# Altium footprint library myPcbLib.PcbLib: 116 footprints (part 2 of 8)
Each footprint in its own frame and in the unit in brackets; x right, y up, seen from the top. Pads: shape width x height; smd on the part's side, far side on the other; paste and mask are expansions set on the pad; w line width, h text height; cw(c..) or ccw(c..) is an arc to the next point about the centre after c.
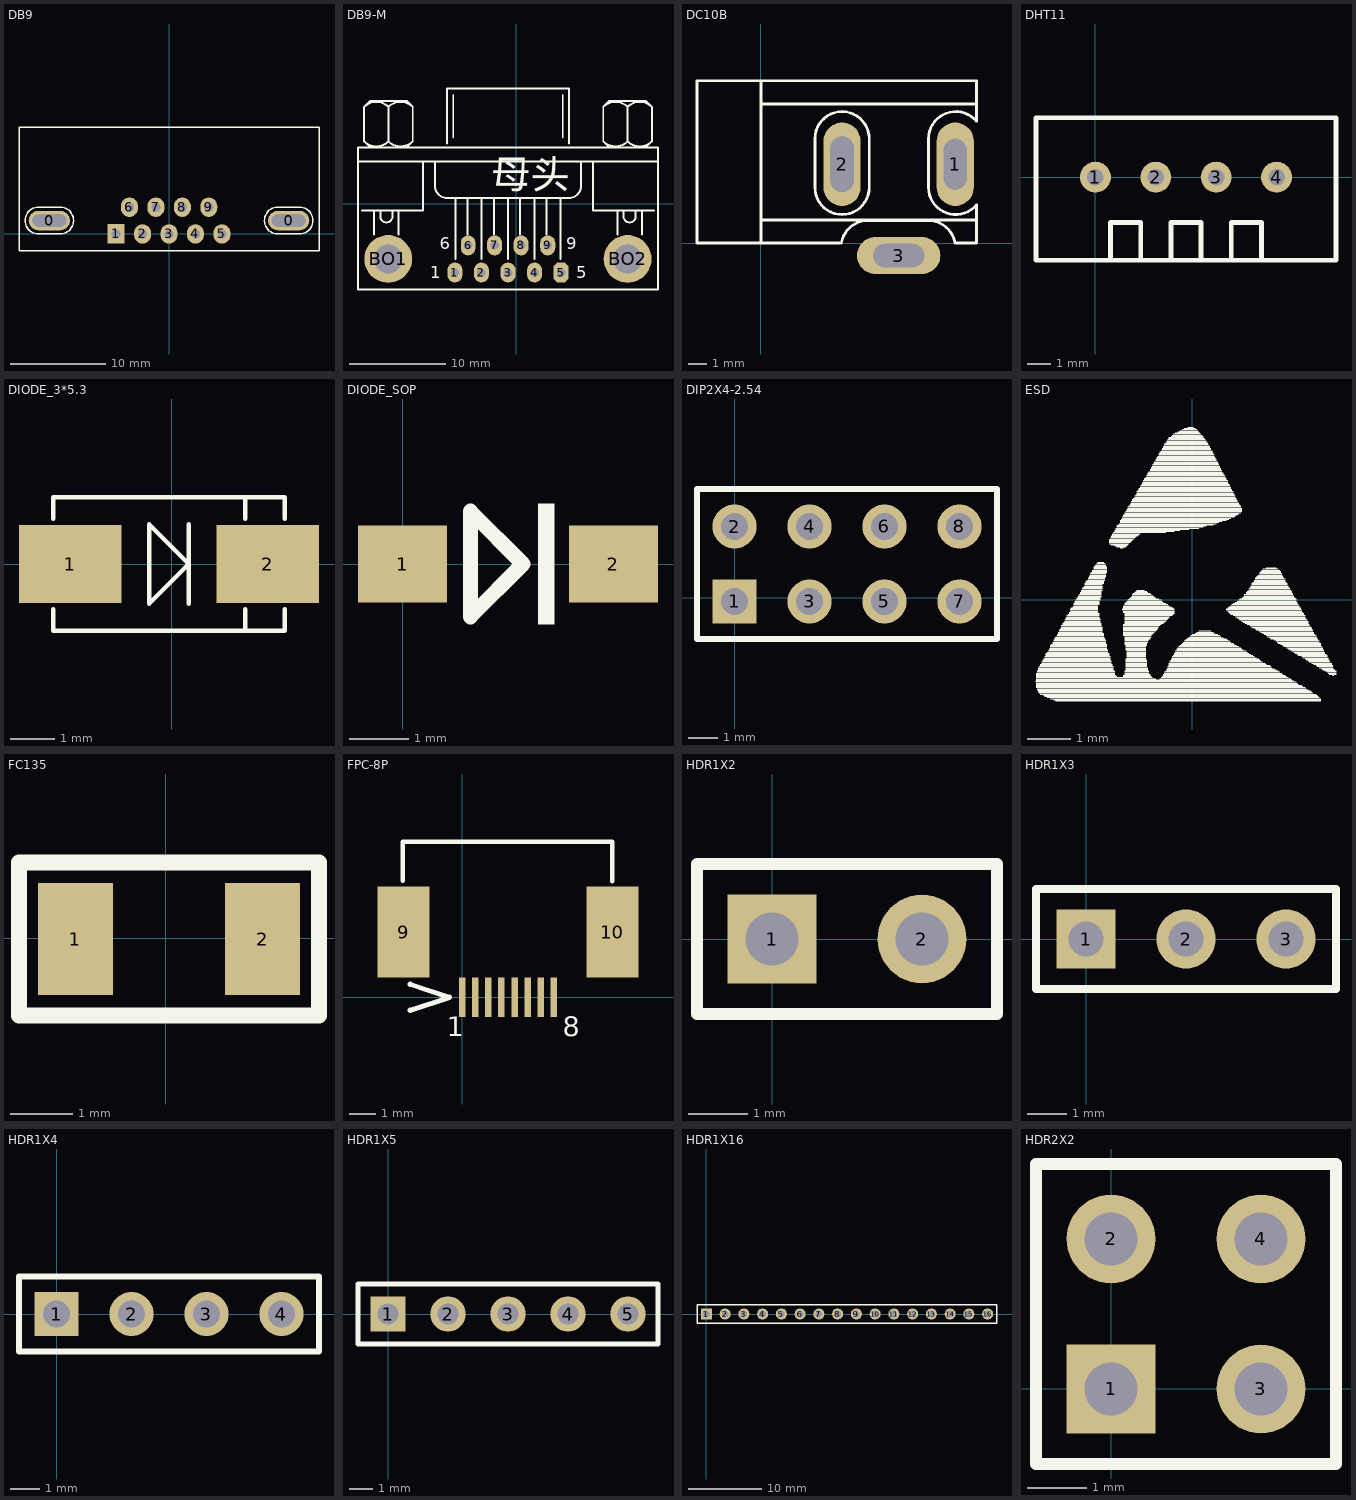
[diagram p1: the footprints below, top view; thin cyan lines are the x and y axes]

## DB9 [mil]
pads (11):
  oval 170x80 hole 50 slot 140 at 0 deg: 0(-493,55) 0(493,55)
  rect 70x80 hole 38: 1(-218,0)
  oval 70x80 hole 38: 2(-109,0) 3(0,0) 4(109,0) 5(218,0) 6(-163,110) 7(-54,110) 8(55,110) 9(164,110)
Top Overlay:
  lines w6: -618,-70 -618,440 618,440 618,-70 -618,-70 ; -538,0 cw(c-538,55) -538,110 -448,110 cw(c-448,55) -448,0 -538,0 ; 448,0 cw(c448,55) 448,110 538,110 cw(c538,55) 538,0 448,0

## DB9-M [mil] "ĸͷ"
pads (11):
  oval 62x82 hole 35: 1(-251.63,-283.07) 2(-142.46,-283.07) 3(-33.29,-283.07) 4(75.87,-283.07) 7(-88.29,-171.4) 8(20.87,-171.4) 9(130.04,-171.4)
  oct 62x82 hole 35: 5(185.04,-283.07)
  oval 60x82 hole 35: 6(-197.46,-171.4)
  round 196.67 hole 118.33: BO1(-525.79,-227.24) BO2(458.37,-227.24)
Top Overlay:
  lines w8: -649.96,172.76 583.37,172.76 ; -633.29,-27.24 -383.29,-27.24 -383.29,172.76 ; -625.05,256.01 ccw(c-574.96,306.1) -524.87,256.01 ; -625.05,397.85 cw(c-574.96,347.76) -524.87,397.85 ; -599.96,231.1 -624.96,256.1 -624.96,397.76 -599.96,422.76 -449.96,422.76 -424.96,397.76 -424.96,256.1 -449.96,231.1 ; -583.29,-127.24 -583.29,-27.24 ; -558.29,-27.24 -558.29,-52.24 ccw(c-533.29,-52.24) -508.29,-52.24 -508.29,-27.24 ; -525.05,256.01 ccw(c-474.96,306.1) -424.87,256.01 ; -525.05,397.85 cw(c-474.96,347.76) -424.87,397.85 ; -524.96,256.1 -524.96,397.76 ; -483.29,-127.24 -483.29,-27.24 ; -333.29,172.76 -333.29,72.76 ccw(c-283.29,72.76) -283.29,22.76 216.71,22.76 ccw(c216.71,72.76) 266.71,72.76 266.71,172.76 ; -283.29,247.76 -283.29,472.76 216.71,472.76 216.71,247.76 ; -258.29,272.76 -258.29,447.76 ; -249.96,-227.24 -249.96,22.76 ; -199.96,-127.24 -199.96,22.76 ; -141.63,-227.24 -141.63,22.76 ; -91.63,-127.24 -91.63,22.76 ; -33.29,-227.24 -33.29,22.76 ; 16.71,-127.24 16.71,22.76 ; 75.04,-227.24 75.04,22.76 ; 125.04,-127.24 125.04,22.76 ; 183.37,-227.24 183.37,22.76 ; 191.71,272.76 191.71,447.76 ; 316.71,172.76 316.71,-27.24 566.71,-27.24 ; 358.29,256.01 ccw(c408.37,306.1) 458.46,256.01 ; 358.29,397.85 cw(c408.37,347.76) 458.46,397.85 ; 383.37,231.1 358.37,256.1 358.37,397.76 383.37,422.76 533.37,422.76 558.37,397.76 558.37,256.1 533.37,231.1 ; 416.71,-127.24 416.71,-27.24 ; 441.71,-27.24 441.71,-52.24 ccw(c466.71,-52.24) 491.71,-52.24 491.71,-27.24 ; 458.29,256.01 ccw(c508.37,306.1) 558.46,256.01 ; 458.29,397.85 cw(c508.37,347.76) 558.46,397.85 ; 458.37,256.1 458.37,397.76 ; 516.71,-127.24 516.71,-27.24 ; -649.96,-352.24 583.37,-352.24 583.37,231.1 -649.96,231.1 -649.96,-352.24
  text "9" at 206.71,-187.24 h50
  text "5" at 246.71,-307.24 h50
  text "1" at -353.29,-307.24 h50
  text "6" at -313.29,-187.24 h50
  text "母头" at -101.57,64.17 h118.11

## DC10B [mil]
pads (3):
  oval 80x180 hole 50 slot 110 at 90 deg: 1(419.09,170)
  oval 80x180 hole 50 slot 120 at 90 deg: 2(175,170)
  oval 180x80 hole 50 slot 110 at 0 deg: 3(297.05,-26.85)
Top Overlay:
  lines w6: 0,50 465,50 ; 0,300 460.13,300 464.25,300 ; 5,350 -15,350 -137.8,350 -137.8,0 0,0 ; 169,0 0,0 ; 173.37,0.16 cw(c231,-10) 231,48.52 361,48.52 cw(c361,-10) 418.63,0.16 ; 420,0 465,0 465,80 ; 464.83,82.38 cw(c420,120) 361.48,120 361.48,225 cw(c420,225) 464.83,262.62 465,350 0,350 0,0 ; 233.52,225 ccw(c175,225) 116.48,225 116.48,120 ccw(c175,120) 233.52,120 233.52,225 ; 233.52,225 233.52,225

## DHT11 [mm]
pads (4):
  round 1.3 hole 0.7: 1(0,0) 2(2.54,0) 3(5.08,0) 4(7.62,0)
Top Overlay:
  lines w0.203: -2.5,-3.5 7.62,-3.5 10.12,-3.5 ; -2.5,-3.46 -2.5,0 -2.5,2.5 7.62,2.5 10.12,2.5 10.12,0 10.12,-3.46 ; 0.635,-3.5 0.635,-1.905 1.905,-1.905 1.905,-3.5 ; 3.175,-3.5 3.175,-1.905 4.445,-1.905 4.445,-3.5 ; 5.715,-3.5 5.715,-1.905 6.985,-1.905 6.985,-3.5

## DIODE_3*5.3 [mm]
pads (2):
  rect 2.3x1.75 smd: 1(-2.286,0) 2(2.159,0)
Top Overlay:
  lines w0.1: -2.667,-1.016 -2.667,-1.5 2.54,-1.5 2.54,-1.016 ; -2.667,1.016 -2.667,1.5 2.54,1.5 2.54,1.016 ; 0.381,-0.889 0.381,0.889 ; 1.651,-1.5 1.651,-1.016 ; 1.651,1.016 1.651,1.5 ; -0.508,-0.889 -0.508,0.889 0.381,0 -0.508,-0.889

## DIODE_SOP [mm]
pads (2):
  rect 1.5x1.3 smd: 1(0,0) 2(3.556,0)
Top Overlay:
  rectangle: 2.286,-1.016 2.559,1.016
  lines w0.254: 1.143,-0.889 2.032,0 1.143,0.889 1.143,-0.889

## DIP2X4-2.54 [mm]
pads (8):
  rect 1.5x1.5 hole 0.9: 1(0,-0.127)
  round 1.5 hole 0.9: 2(0,2.413) 3(2.54,-0.127) 4(2.54,2.413) 5(5.08,-0.127) 6(5.08,2.413) 7(7.62,-0.127) 8(7.62,2.413)
Top Overlay:
  lines w0.2: -1.27,-1.397 -1.27,3.683 8.89,3.683 8.89,-1.397 -1.27,-1.397

## ESD [mm]
Top Overlay:
  drawing of 457 lines, arcs and shapes, not listed

## FC135 [mm]
pads (2):
  rect 1.2x1.8 smd: 1(-1.451,-0.01) 2(1.549,-0.01)
Top Overlay:
  lines w0.254: -2.351,-1.235 -2.351,1.215 2.449,1.215 2.449,-1.235 -2.351,-1.235
3D body "FC135.STEP": height 0.91, standoff 0, extent -1.536,-0.745 1.684,0.775

## FPC-8P [mm]
pads (10):
  rect 0.25x1.5 smd: 1(0,0) 2(0.5,0) 3(1,0) 4(1.5,0) 5(2,0) 6(2.5,0) 7(3,0) 8(3.5,0)
  rect 2x3.5 smd: 9(-2.25,2.5) 10(5.75,2.5)
Top Overlay:
  lines w0.178: -2.286,4.47 -2.286,5.969 5.75,5.969 5.75,4.45
  lines w0.2: -2,-0.5 -0.5,0 -2,0.5
  text "8" at 3.85,-1.5 h0.76
  text "1" at -0.6,-1.5 h0.76

## HDR1X2 [mm]
pads (2):
  rect 1.5x1.5 hole 0.9: 1(0,0)
  round 1.5 hole 0.9: 2(2.54,0)
Top Overlay:
  lines w0.2: -1.27,-1.27 -1.27,1.27 3.81,1.27 3.81,-1.27 -1.27,-1.27

## HDR1X3 [mm] "Connector; Header; 3 Position"
pads (3):
  rect 1.5x1.5 hole 0.9: 1(0,0)
  round 1.5 hole 0.9: 2(2.54,0) 3(5.08,0)
Top Overlay:
  lines w0.2: -1.27,-1.27 -1.27,1.27 6.35,1.27 6.35,-1.27 -1.27,-1.27

## HDR1X4 [mm]
pads (4):
  rect 1.5x1.5 hole 0.9: 1(0,0)
  round 1.5 hole 0.9: 2(2.54,0) 3(5.08,0) 4(7.62,0)
Top Overlay:
  lines w0.2: -1.27,-1.27 8.89,-1.27 8.89,1.27 -1.27,1.27 -1.27,-1.27

## HDR1X5 [mm]
pads (5):
  rect 1.5x1.5 hole 0.9: 1(0,0)
  round 1.5 hole 0.9: 2(2.54,0) 3(5.08,0) 4(7.62,0) 5(10.16,0)
Top Overlay:
  lines w0.2: -1.27,-1.27 11.43,-1.27 11.43,1.27 -1.27,1.27 -1.27,-1.27

## HDR1X16 [mm]
pads (16):
  rect 1.5x1.5 hole 0.9: 1(0,0)
  round 1.5 hole 0.9: 2(2.54,0) 3(5.08,0) 4(7.62,0) 5(10.16,0) 6(12.7,0) 7(15.24,0) 8(17.78,0) 9(20.32,0) 10(22.86,0) 11(25.4,0) 12(27.94,0) 13(30.48,0) 14(33.02,0) 15(35.56,0) 16(38.1,0)
Top Overlay:
  lines w0.2: -1.27,-1.27 -1.27,1.27 0.635,1.27 39.37,1.27 39.37,-1.27 -1.27,-1.27

## HDR2X2 [mm]
pads (4):
  rect 1.5x1.5 hole 0.9: 1(0,0)
  round 1.5 hole 0.9: 2(0,2.54) 3(2.54,0) 4(2.54,2.54)
Top Overlay:
  lines w0.2: -1.27,-1.27 -1.27,3.81 3.81,3.81 3.81,-1.27 -1.27,-1.27